# Altium footprint library Wally_BMS.PcbLib: 23 footprints (part 2 of 2)
Each footprint in its own frame and in the unit in brackets; x right, y up, seen from the top. Pads: shape width x height; smd on the part's side, far side on the other; paste and mask are expansions set on the pad; w line width, h text height; cw(c..) or ccw(c..) is an arc to the next point about the centre after c.
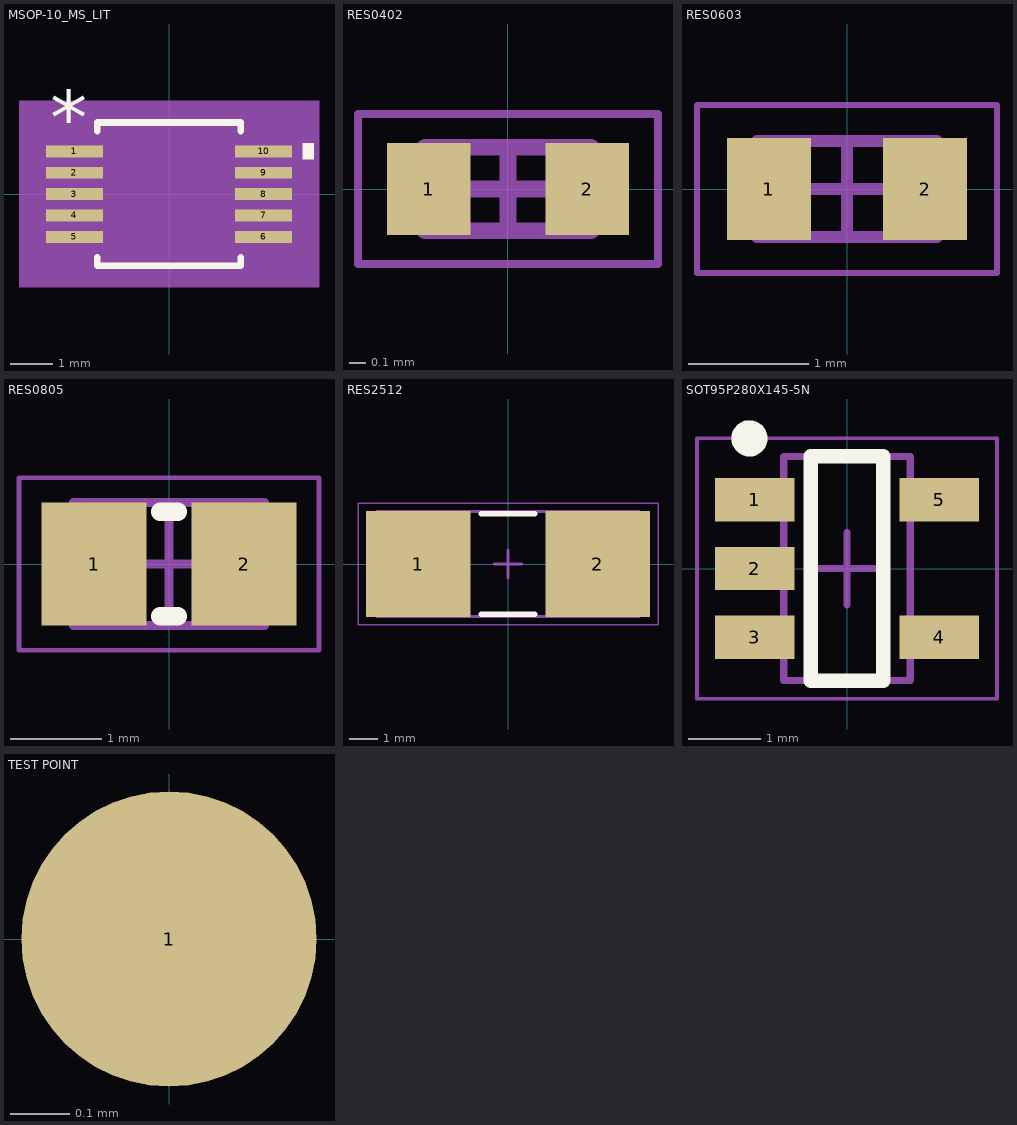
[diagram p1: the footprints below, top view; thin cyan lines are the x and y axes]

## MSOP-10_MS_LIT [mil]
pads (10):
  rect 52.28x11 smd paste+0 mask+0: 1(-87.14,39.4) 2(-87.14,19.7) 3(-87.14,0) 4(-87.14,-19.7) 5(-87.14,-39.4) 6(87.14,-39.4) 7(87.14,-19.7) 8(87.14,0) 9(87.14,19.7) 10(87.14,39.4)
Top Overlay:
  region: 123.28,46.9 133.28,46.9 133.28,31.9 123.28,31.9
  lines w6: -66,-58 -66,-66 66,-66 66,-58 ; -66,58 -66,66 66,66 66,58
  text "*" at -109.64,45.4 h50
Mechanical 5:
  region: 138.28,-86 -138.28,-86 -138.28,86 138.28,86
Mechanical 13:
  lines w0: -12,61 ccw(c0,61) 12,61
  lines w1: -99.5,-44.9 -61,-44.9 -61,-33.9 -99.5,-33.9 -99.5,-44.9 ; -99.5,-25.2 -61,-25.2 -61,-14.2 -99.5,-14.2 -99.5,-25.2 ; -99.5,-5.5 -61,-5.5 -61,5.5 -99.5,5.5 -99.5,-5.5 ; -99.5,14.2 -61,14.2 -61,25.2 -99.5,25.2 -99.5,14.2 ; -99.5,33.9 -61,33.9 -61,44.9 -99.5,44.9 -99.5,33.9 ; -61,-61 -61,61 61,61 61,-61 -61,-61 ; 61,-44.9 99.5,-44.9 99.5,-33.9 61,-33.9 61,-44.9 ; 61,-25.2 99.5,-25.2 99.5,-14.2 61,-14.2 61,-25.2 ; 61,-5.5 99.5,-5.5 99.5,5.5 61,5.5 61,-5.5 ; 61,14.2 99.5,14.2 99.5,25.2 61,25.2 61,14.2 ; 61,33.9 99.5,33.9 99.5,44.9 61,44.9 61,33.9
  text "*" at -58.5,8 h50
Mechanical 15:
  region: -71,-54.9 -123.28,-54.9 -123.28,54.9 -71,54.9 -71,71 71,71 71,54.9 123.28,54.9 123.28,-54.9 71,-54.9 71,-71 -71,-71
  lines w6: -123.28,-54.9 -71,-54.9 -71,-71 71,-71 71,-54.9 123.28,-54.9 123.28,54.9 71,54.9 71,71 -71,71 -71,54.9 -123.28,54.9 -123.28,-54.9
3D body "MSOP-10_MS_LIT.step": height 43.11, standoff 0, extent -99.49,-60.98 99.49,60.98

## RES0402 [mm]
height 0.5
pads (2):
  rect 0.5x0.55 smd: 1(-0.475,0) 2(0.475,0)
Mechanical 13:
  lines w0.1: -0.5,-0.25 -0.5,0.25 0.5,0.25 0.5,-0.25 -0.5,-0.25
Mechanical 15:
  lines w0.05: -0.9,-0.45 -0.9,0.45 0.9,0.45 0.9,-0.45 -0.9,-0.45
  lines w0.1: -0.25,0 0.25,0 ; 0,-0.25 0,0.25
3D body: height 0.5, standoff 0, extent -0.25,-0.25 0.25,0.25
3D body: height 0.5, standoff 0, extent -0.5,-0.25 -0.25,0.25
3D body: height 0.5, standoff 0, extent 0.25,-0.25 0.5,0.25

## RES0603 [mm]
height 0.6
pads (2):
  rect 0.7x0.85 smd: 1(-0.65,0) 2(0.65,0)
Mechanical 13:
  lines w0.1: -0.75,-0.4 0.75,-0.4 0.75,0.4 -0.75,0.4 -0.75,-0.4
Mechanical 15:
  lines w0.05: -1.25,-0.7 1.25,-0.7 1.25,0.7 -1.25,0.7 -1.25,-0.7
  lines w0.1: -0.4,0 0.4,0 ; 0,-0.4 0,0.4
3D body: height 0.6, standoff 0, extent 0.37,-0.4 0.75,0.4
3D body: height 0.6, standoff 0, extent -0.75,-0.4 -0.37,0.4
3D body: height 0.6, standoff 0, extent -0.37,-0.4 0.37,0.4

## RES0805 [mm] "Resistor with 0805 Footprint"
height 0.6
pads (2):
  rect 1.15x1.35 smd: 1(-0.825,0) 2(0.825,0)
Top Overlay:
  lines w0.2: -0.1,-0.575 0.1,-0.575 ; -0.1,0.575 0.1,0.575
Mechanical 13:
  lines w0.1: -1.05,-0.675 1.05,-0.675 1.05,0.675 -1.05,0.675 -1.05,-0.675
Mechanical 15:
  lines w0.05: -1.65,-0.95 1.65,-0.95 1.65,0.95 -1.65,0.95 -1.65,-0.95
  lines w0.1: -0.5,0 0.5,0 ; 0,-0.5 0,0.5
3D body "RESC2012X06N.step": height 0.6, standoff 0, extent -1.05,-0.675 1.05,0.675

## RES2512 [mm]
height 0.5
pads (2):
  rect 3.7x3.75 smd: 1(-3.175,0) 2(3.175,0)
Top Overlay:
  lines w0.2: -0.95,-1.775 0.95,-1.775 ; -0.95,1.775 0.95,1.775
Mechanical 13:
  lines w0.1: -4.65,-1.85 -4.65,1.85 4.65,1.85 4.65,-1.85 -4.65,-1.85
Mechanical 15:
  lines w0.05: -5.3,-2.15 -5.3,2.15 5.3,2.15 5.3,-2.15 -5.3,-2.15
  lines w0.1: -0.5,0 0.5,0 ; 0,-0.5 0,0.5
3D body: height 0.5, standoff 0, extent -1.35,-1.85 1.35,1.85
3D body: height 0.5, standoff 0, extent -4.65,-1.85 -1.35,1.85
3D body: height 0.5, standoff 0, extent 1.35,-1.85 4.65,1.85

## SOT95P280X145-5N [mm] "SOT23, 5-Leads, Body 2.95x2.80mm, Pitch 0.95mm, IPC Medium Density"
height 1.45
pads (5):
  rect 1.1x0.6 smd: 1(-1.275,0.95) 2(-1.275,0) 3(-1.275,-0.95) 4(1.275,-0.95) 5(1.275,0.95)
Top Overlay:
  circle w0.25: c-1.35,1.8 r0.125
  lines w0.2: -0.5,-1.55 -0.5,1.55 0.5,1.55 0.5,-1.55 -0.5,-1.55
Mechanical 13:
  lines w0.1: -0.875,-1.55 0.875,-1.55 0.875,1.55 -0.875,1.55 -0.875,-1.55
Mechanical 15:
  lines w0.05: -2.075,-1.8 2.075,-1.8 2.075,1.8 -2.075,1.8 -2.075,-1.8
  lines w0.1: -0.5,0 0.5,0 ; 0,-0.5 0,0.5
3D body "SOT23_5.stp": height 0.91, standoff 0, extent -1.602,-1.476 1.602,1.524

## TEST POINT [mm]
pads (1):
  round 0.5 smd: 1(0,0)